# EAGLE library part FDS6575 (library PowerBoard)
FDS6575 P-Channel 2.5V Specified PowerTrench MOSFET Source: http://www.fairchildsemi.com/ds/FD/FDS6575.pdf
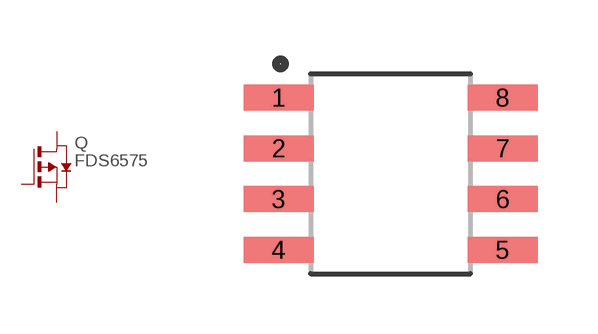
[diagram p12: symbol with the pads of SOIC-8; footprint SOIC-8]

Designator prefix Q

## FDS6575  [SOIC-8]
1  S  pas
2  S  pas
3  S  pas
4  G  pas
5  D  pas
6  D  pas
7  D  pas
8  D  pas

## Footprint SOIC-8 (pad centres in mm)
SOIC 8-pin 5 x 4 (6.2) mm 8-pin SOIC package Source: http://www.fairchildsemi.com/dwg/M0/M08A.pdf
smd 1.75 x 0.65: 1 -2.8,1.905; 2 -2.8,0.635; 3 -2.8,-0.635; 4 -2.8,-1.905; 5 2.8,-1.905; 6 2.8,-0.635; 7 2.8,0.635; 8 2.8,1.905